# Altium integrated library Atmel MCU Wireless.IntLib: 8 symbols
Pins are listed as number, name and electrical type; pins without a type are passive.

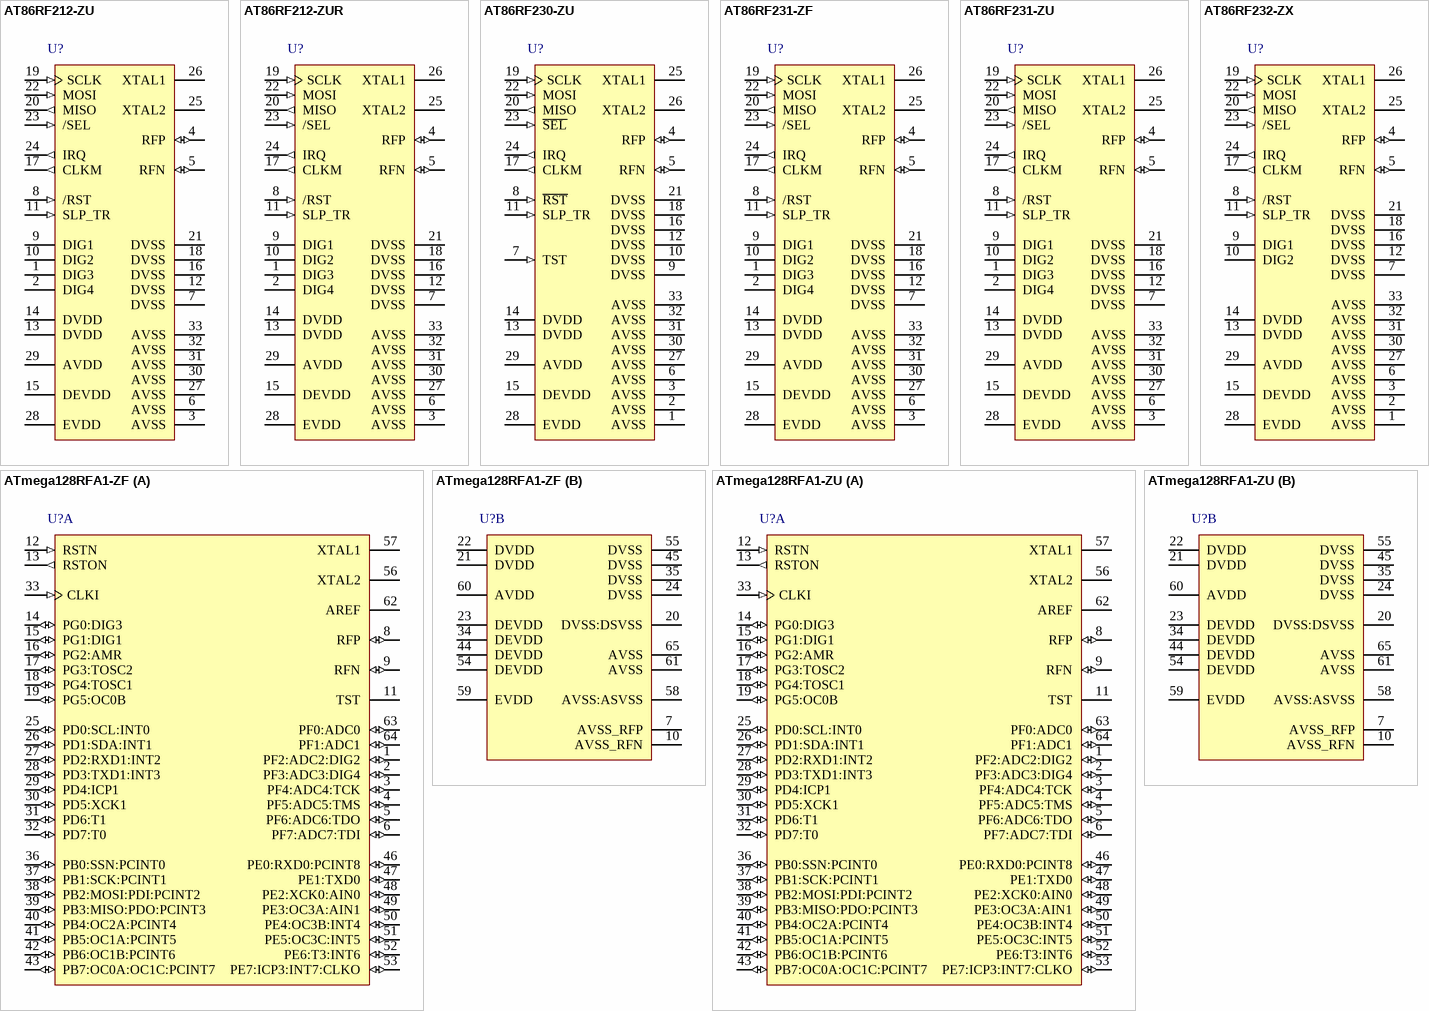
[diagram p0: symbols AT86RF212-ZU to ATmega128RFA1-ZU]

## AT86RF212-ZU
designator U?
AVR Low Power 700/800/900 MHz Transceiver for IEEE 802.15.4-2006, IEEE 802.15.4c-2009, Zigbee 6LoWPAN, and ISM Applications, 64-Pin VQFN (Sawn) (PI64), Industrial (A) (-40°C to 85°C); Max. Operating Frequency: 0 MHz; Max I/O Pins: 0; Crypto Engine: AES; Operating Voltage (Vcc): 1.8 to 3.6; Max Data Rate (Mb/s): 1; Antenna Diversity: No; External PA Control: Yes; Power Output (dBm): 10; Receiver Sensitivity (dBm): -110; Receive Current Consumption (mA): 9; Transmit Current Consumption (mA): 18 at 5dBm; Link Budget (dBm): 120; DatasheetVersion: rev C, Feb-2010; PackageVersion: revA, Nov-2007; PackageReference: 32QN2; PackageDescription: 32-Pin Quad Flat No-Lead (QFN) Sawn,  5 x 5 x 1.0 mm Body, Pitch 0.50 mm, 3.10mm Exposed Pad; SPI: 0; TWI (I2C): 0; UART: 0; ADC channels: 0; ADC Resolution (bits): 0; ADC Speed (ksps): 0; Analog Comparators: 0; SRAM (Kbytes): 0; EEPROM (Bytes): 0; Timers: 0; Frequency Band: 700/800/900MHz; Code_JEDEC: MO-220VHHD-6; ComponentLink1Description: Manufacturer URL; ComponentLink1URL: http://www.atmel.com/; ComponentLink2Description: Datasheet; ComponentLink2URL: http://www.atmel.com/Images/doc8168.pdf
footprint 32QN2_N (QFN, 32-Leads, Body 5x5mm, Pitch 0.5mm, Thermal Pad 3.4x3.4mm, IPC Medium Density)
footprint 32QN2_L (QFN, 32-Leads, Body 5x5mm, Pitch 0.5mm, Thermal Pad 3.4x3.4mm, IPC High Density)
footprint 32QN2_M (QFN, 32-Leads, Body 5x5mm, Pitch 0.5mm, Thermal Pad 3.4x3.4mm, IPC Low Density)
pins: 1 DIG3 "RX/TX Indication , see section9.4; if disabled, internally pulled to AVSS", 2 DIG4 "RX/TX Indication (inverted DIG3) , see section9.4; if disabled, internally pulled to AVSS", 3 AVSS (power) "Ground for RF signals", 4 RFP (io) "Differential RF signal", 5 RFN (io) "Differential RF signal", 6 AVSS (power) "Ground for RF signals", 7 DVSS (power) "Digital ground", 8 /RST (in) "Chip reset; active low", 9 DIG1 "General purpose signal, see section 9.3; if disabled, internally pulled to DVSS", 10 DIG2 "1.General purpose signal (inverted DIG1), see section 9.3; 2.Signal IRQ_2 (RX_START) for RX Frame Time Stamping, see 9.5. If disabled, internally pulled to DVSS", 11 SLP_TR (in) "Controls sleep, transmit start, receive states; active high, see Section 6.5", 12 DVSS (power) "Digital ground", 13 DVDD (power) "Regulated 1.8V supply voltage; digital domain;see section 7.5", 14 DVDD (power) "Regulated 1.8V supply voltage; digital domain;see section 7.5", 15 DEVDD (power) "External supply voltage; digital domain", 16 DVSS (power) "Digital ground", 17 CLKM (out) "Master clock signal output,low if disabled;see section 7.7", 18 DVSS (power) "Digital ground", 19 SCLK (in) "SPI clock", 20 MISO (out) "SPI data output (master input slave output)", 21 DVSS (power) "Digital ground", 22 MOSI (in) "SPI data input (master output slave input)", 23 /SEL (in) "SPI select; active low", 24 IRQ (out) "1.Interrupt request signal; active high or active low;see sectiong 4.7   2.Buffer-level mode indicator;active high", 25 XTAL2 "Crystal pin,see sections 2.2.1.3 and 7.7", 26 XTAL1 "Crystal pin or external clock supply, see  section 2.2.1.3 and 7.7", 27 AVSS (power) "Analog ground", 28 EVDD (power) "External supply voltage; analog domain", 29 AVDD (power) "Regulated 1.8V supply voltage; analog domain;see section 7.5", 30 AVSS (power) "Analog ground", 31 AVSS (power) "Analog ground", 32 AVSS (power) "Analog ground", 33 AVSS (power) "Analog ground;exposed paddle of QFN package"

## AT86RF212-ZUR
designator U?
AVR Low Power 700/800/900 MHz Transceiver for IEEE 802.15.4-2006, IEEE 802.15.4c-2009, Zigbee 6LoWPAN, and ISM Applications, 32-Pin VQFN (32QN1), Industrial (A) (-40°C to 85°C); Max. Operating Frequency: 0 MHz; Max I/O Pins: 0; Crypto Engine: AES; Operating Voltage (Vcc): 1.8 to 3.6; Max Data Rate (Mb/s): 1; Antenna Diversity: No; External PA Control: Yes; Power Output (dBm): 10; Receiver Sensitivity (dBm): -110; Receive Current Consumption (mA): 9; Transmit Current Consumption (mA): 18 at 5dBm; Link Budget (dBm): 120; DatasheetVersion: rev C, Feb-2010; PackageVersion: revA, Nov-2007; PackageReference: 32QN2; PackageDescription: 32-Pin Quad Flat No-Lead (QFN) Sawn,  5 x 5 x 1.0 mm Body, Pitch 0.50 mm, 3.10mm Exposed Pad; SPI: 0; TWI (I2C): 0; UART: 0; ADC channels: 0; ADC Resolution (bits): 0; ADC Speed (ksps): 0; Analog Comparators: 0; SRAM (Kbytes): 0; EEPROM (Bytes): 0; Timers: 0; Frequency Band: 700/800/900MHz; Code_JEDEC: MO-220VHHD-6; ComponentLink1Description: Manufacturer URL; ComponentLink1URL: http://www.atmel.com/; ComponentLink2Description: Datasheet; ComponentLink2URL: http://www.atmel.com/Images/doc8168.pdf
footprint 32QN2_N (QFN, 32-Leads, Body 5x5mm, Pitch 0.5mm, Thermal Pad 3.4x3.4mm, IPC Medium Density)
footprint 32QN2_L (QFN, 32-Leads, Body 5x5mm, Pitch 0.5mm, Thermal Pad 3.4x3.4mm, IPC High Density)
footprint 32QN2_M (QFN, 32-Leads, Body 5x5mm, Pitch 0.5mm, Thermal Pad 3.4x3.4mm, IPC Low Density)
pins: 1 DIG3 "RX/TX Indication , see section9.4; if disabled, internally pulled to AVSS", 2 DIG4 "RX/TX Indication (inverted DIG3) , see section9.4; if disabled, internally pulled to AVSS", 3 AVSS (power) "Ground for RF signals", 4 RFP (io) "Differential RF signal", 5 RFN (io) "Differential RF signal", 6 AVSS (power) "Ground for RF signals", 7 DVSS (power) "Digital ground", 8 /RST (in) "Chip reset; active low", 9 DIG1 "General purpose signal, see section 9.3; if disabled, internally pulled to DVSS", 10 DIG2 "1.General purpose signal (inverted DIG1), see section 9.3; 2.Signal IRQ_2 (RX_START) for RX Frame Time Stamping, see 9.5. If disabled, internally pulled to DVSS", 11 SLP_TR (in) "Controls sleep, transmit start, receive states; active high, see Section 6.5", 12 DVSS (power) "Digital ground", 13 DVDD (power) "Regulated 1.8V supply voltage; digital domain;see section 7.5", 14 DVDD (power) "Regulated 1.8V supply voltage; digital domain;see section 7.5", 15 DEVDD (power) "External supply voltage; digital domain", 16 DVSS (power) "Digital ground", 17 CLKM (out) "Master clock signal output,low if disabled;see section 7.7", 18 DVSS (power) "Digital ground", 19 SCLK (in) "SPI clock", 20 MISO (out) "SPI data output (master input slave output)", 21 DVSS (power) "Digital ground", 22 MOSI (in) "SPI data input (master output slave input)", 23 /SEL (in) "SPI select; active low", 24 IRQ (out) "1.Interrupt request signal; active high or active low;see sectiong 4.7   2.Buffer-level mode indicator;active high", 25 XTAL2 "Crystal pin,see sections 2.2.1.3 and 7.7", 26 XTAL1 "Crystal pin or external clock supply, see  section 2.2.1.3 and 7.7", 27 AVSS (power) "Analog ground", 28 EVDD (power) "External supply voltage; analog domain", 29 AVDD (power) "Regulated 1.8V supply voltage; analog domain;see section 7.5", 30 AVSS (power) "Analog ground", 31 AVSS (power) "Analog ground", 32 AVSS (power) "Analog ground", 33 AVSS (power) "Analog ground;exposed paddle of QFN package"

## AT86RF230-ZU
designator U?
AVR Low Power 2.4 GHz Transceiver for ZigBee IEEE 802.15.4, 6LoWPAN, RF4CE and ISM Applications, 32-Pin VQFN (32QN1), Industrial (A) (-40°C to 85°C); Max I/O Pins: 0; Crypto Engine: No; Operating Voltage (Vcc): 1.8 to 3.6; Frequency Band: 2.4 GHz; Max Data Rate (Mb/s): 0.25; Power Output (dBm): 3; Receiver Sensitivity (dBm): -101; Receive Current Consumption (mA): 16; Transmit Current Consumption (mA): 17; Link Budget (dBm): 104; DatasheetVersion: rev E, Feb-2009; PackageVersion: revA, Nov-2007; PackageReference: 32QN2; PackageDescription: 32-Pin Quad Flat No-Lead (QFN) Sawn,  5 x 5 x 1.0 mm Body, Pitch 0.50 mm, 3.10mm Exposed Pad; SPI: 0; TWI (I2C): 0; UART: 0; ADC channels: 0; ADC Resolution (bits): 0; ADC Speed (ksps): 0; Analog Comparators: 0; SRAM (Kbytes): 0; EEPROM (Bytes): 0; Timers: 0; Antenna Diversity: No; External PA Control: No; Code_JEDEC: MO-220VHHD-6; ComponentLink1Description: Manufacturer URL; ComponentLink1URL: http://www.atmel.com/; ComponentLink2Description: Datasheet; ComponentLink2URL: http://www.atmel.com/Images/doc5131.pdf
footprint 32QN2_N (QFN, 32-Leads, Body 5x5mm, Pitch 0.5mm, Thermal Pad 3.4x3.4mm, IPC Medium Density)
footprint 32QN2_L (QFN, 32-Leads, Body 5x5mm, Pitch 0.5mm, Thermal Pad 3.4x3.4mm, IPC High Density)
footprint 32QN2_M (QFN, 32-Leads, Body 5x5mm, Pitch 0.5mm, Thermal Pad 3.4x3.4mm, IPC Low Density)
pins: 1 AVSS (power) "Analog ground", 2 AVSS (power) "Analog ground", 3 AVSS (power) "Ground for RF signals", 4 RFP (io) "Differential RF signal", 5 RFN (io) "Differential RF signal", 6 AVSS (power) "Ground for RF signals", 7 TST (in) "Enables Continuous Transmission Test Mode; active high", 8 ~{RST} (in) "Chip reset; active low", 9 DVSS (power) "Digital ground", 10 DVSS (power) "Digital ground", 11 SLP_TR (in) "Controls sleep, transmit start and receive states; active high", 12 DVSS (power) "Digital ground", 13 DVDD (power) "Regulated 1.8V supply voltage; digital domain", 14 DVDD (power) "Regulated 1.8V supply voltage; digital domain", 15 DEVDD (power) "External supply voltage; digital domain", 16 DVSS (power) "Digital ground", 17 CLKM (out) "Master clock signal output", 18 DVSS (power) "Digital ground", 19 SCLK (in) "SPI clock", 20 MISO (out) "SPI data output (master input slave output)", 21 DVSS (power) "Digital ground", 22 MOSI (in) "SPI data input (master output slave input)", 23 ~{SEL} (in) "SPI select; active low", 24 IRQ (out) "Interrupt request signal; active high", 25 XTAL1 "Crystal pin or external clock supply", 26 XTAL2 "Crystal pin", 27 AVSS (power) "Analog ground", 28 EVDD (power) "External supply voltage; analog domain", 29 AVDD (power) "Analog ground", 30 AVSS (power) "Analog ground", 31 AVSS (power) "Analog ground", 32 AVSS (power) "Analog ground", 33 AVSS (power) "Analog ground; Exposed Paddle of QFN package"

## AT86RF231-ZF
designator U?
AVR Low Power 2.4 GHz Transceiver for ZigBee IEEE 802.15.4, 6LoWPAN, RF4CE, SP100, WirelessHART and ISM Applications, 32-Pin VQFN (32QN1), Industrial (C) (-40°C to 125°C); Max. Operating Frequency: 0 MHz; Max I/O Pins: 0; Crypto Engine: AES; Operating Voltage (Vcc): 1.8 to 3.6; Frequency Band: 2.4 GHz; Max Data Rate (Mb/s): 2; Antenna Diversity: Yes; Power Output (dBm): 3; Receiver Sensitivity (dBm): -101; Receive Current Consumption (mA): 13.2; Transmit Current Consumption (mA): 14.4; Link Budget (dBm): 104; DatasheetVersion: rev C, Sep-2009; PackageVersion: revA, Nov-2007; PackageReference: 32QN2; PackageDescription: 32-Pin Quad Flat No-Lead (QFN) Sawn,  5 x 5 x 1.0 mm Body, Pitch 0.50 mm, 3.10mm Exposed Pad; SPI: 0; TWI (I2C): 0; UART: 0; ADC channels: 0; ADC Resolution (bits): 0; ADC Speed (ksps): 0; Analog Comparators: 0; SRAM (Kbytes): 0; EEPROM (Bytes): 0; Timers: 0; External PA Control: Yes; Code_JEDEC: MO-220VHHD-6; ComponentLink1Description: Manufacturer URL; ComponentLink1URL: http://www.atmel.com/; ComponentLink2Description: Datasheet; ComponentLink2URL: http://www.atmel.com/Images/doc8111.pdf
footprint 32QN2_N (QFN, 32-Leads, Body 5x5mm, Pitch 0.5mm, Thermal Pad 3.4x3.4mm, IPC Medium Density)
footprint 32QN2_L (QFN, 32-Leads, Body 5x5mm, Pitch 0.5mm, Thermal Pad 3.4x3.4mm, IPC High Density)
footprint 32QN2_M (QFN, 32-Leads, Body 5x5mm, Pitch 0.5mm, Thermal Pad 3.4x3.4mm, IPC Low Density)
pins: 1 DIG3 "1. RX/TX Indicator, see Section 11.5 2. If disabled, pull-down enabled (AVSS)", 2 DIG4 "1. RX/TX indicator (DIG3 inverted), see Section 11.5 2. If disabled, pull-down enabled (AVSS)", 3 AVSS (power) "Ground for RF signals", 4 RFP (io) "Differential RF signal", 5 RFN (io) "Differential RF signal", 6 AVSS (power) "Ground for RF signals", 7 DVSS (power) "Digital ground", 8 /RST (in) "Chip reset; active low", 9 DIG1 "1. Antenna Diversity RF switch control, see Section 11.4 2. If disabled, pull-down enabled (DVSS)", 10 DIG2 "1. Antenna Diversity RF switch control (DIG1 inverted), see Section 11.4 2. Signal IRQ_2 (RX_START) for RX Frame Time Stamping, see Section 11.6 3. If functions disabled, pull-down enabled (DVSS)", 11 SLP_TR (in) "Controls sleep, transmit start, receive states; active high, see Section 6.5", 12 DVSS (power) "Digital ground", 13 DVDD (power) "Regulated 1.8V voltage regulator; digital domain, see Section 9.4", 14 DVDD (power) "Regulated 1.8V voltage regulator; digital domain, see Section 9.4", 15 DEVDD (power) "External supply voltage; digital domain", 16 DVSS (power) "Digital ground", 17 CLKM (out) "Master clock signal output; low if disabled, see Section 9.6", 18 DVSS (power) "Digital ground", 19 SCLK (in) "SPI clock", 20 MISO (out) "SPI data output (Master Input Slave Output)", 21 DVSS (power) "Digital ground", 22 MOSI (in) "SPI data input (Master Output Slave Input)", 23 /SEL (in) "SPI select, active low", 24 IRQ (out) "1. Interrupt request signal; active high or active low; configurable 2. Frame Buffer Empty Indicator; active high, see Section 11.7", 25 XTAL2 "Crystal pin, see Section 9.6", 26 XTAL1 "Crystal pin or external clock supply, see Section 9.6", 27 AVSS (power) "Analog ground", 28 EVDD (power) "External supply voltage, analog domain", 29 AVDD (power) "Regulated 1.8V voltage regulator; analog domain, see Section 9.4", 30 AVSS (power) "Analog ground", 31 AVSS (power) "Analog ground", 32 AVSS (power) "Analog ground", 33 AVSS (power) "Analog ground; Exposed paddle of QFN package"

## AT86RF231-ZU
designator U?
AVR Low Power 2.4 GHz Transceiver for ZigBee IEEE 802.15.4, 6LoWPAN, RF4CE, SP100, WirelessHART and ISM Applications, 32-Pin VQFN (32QN1), Industrial (A) (-40°C to 85°C); Max. Operating Frequency: 0 MHz; Max I/O Pins: 0; Crypto Engine: AES; Operating Voltage (Vcc): 1.8 to 3.6; Frequency Band: 2.4 GHz; Max Data Rate (Mb/s): 2; Antenna Diversity: Yes; Power Output (dBm): 3; Receiver Sensitivity (dBm): -101; Receive Current Consumption (mA): 13.2; Transmit Current Consumption (mA): 14.4; Link Budget (dBm): 104; DatasheetVersion: rev C, Sep-2009; PackageVersion: revA, Nov-2007; PackageReference: 32QN2; PackageDescription: 32-Pin Quad Flat No-Lead (QFN) Sawn,  5 x 5 x 1.0 mm Body, Pitch 0.50 mm, 3.10mm Exposed Pad; SPI: 0; TWI (I2C): 0; UART: 0; ADC channels: 0; ADC Resolution (bits): 0; ADC Speed (ksps): 0; Analog Comparators: 0; SRAM (Kbytes): 0; EEPROM (Bytes): 0; Timers: 0; External PA Control: Yes; Code_JEDEC: MO-220VHHD-6; ComponentLink1Description: Manufacturer URL; ComponentLink1URL: http://www.atmel.com/; ComponentLink2Description: Datasheet; ComponentLink2URL: http://www.atmel.com/Images/doc8111.pdf
footprint 32QN2_N (QFN, 32-Leads, Body 5x5mm, Pitch 0.5mm, Thermal Pad 3.4x3.4mm, IPC Medium Density)
footprint 32QN2_L (QFN, 32-Leads, Body 5x5mm, Pitch 0.5mm, Thermal Pad 3.4x3.4mm, IPC High Density)
footprint 32QN2_M (QFN, 32-Leads, Body 5x5mm, Pitch 0.5mm, Thermal Pad 3.4x3.4mm, IPC Low Density)
pins: 1 DIG3 "1. RX/TX Indicator, see Section 11.5 2. If disabled, pull-down enabled (AVSS)", 2 DIG4 "1. RX/TX indicator (DIG3 inverted), see Section 11.5 2. If disabled, pull-down enabled (AVSS)", 3 AVSS (power) "Ground for RF signals", 4 RFP (io) "Differential RF signal", 5 RFN (io) "Differential RF signal", 6 AVSS (power) "Ground for RF signals", 7 DVSS (power) "Digital ground", 8 /RST (in) "Chip reset; active low", 9 DIG1 "1. Antenna Diversity RF switch control, see Section 11.4 2. If disabled, pull-down enabled (DVSS)", 10 DIG2 "1. Antenna Diversity RF switch control (DIG1 inverted), see Section 11.4 2. Signal IRQ_2 (RX_START) for RX Frame Time Stamping, see Section 11.6 3. If functions disabled, pull-down enabled (DVSS)", 11 SLP_TR (in) "Controls sleep, transmit start, receive states; active high, see Section 6.5", 12 DVSS (power) "Digital ground", 13 DVDD (power) "Regulated 1.8V voltage regulator; digital domain, see Section 9.4", 14 DVDD (power) "Regulated 1.8V voltage regulator; digital domain, see Section 9.4", 15 DEVDD (power) "External supply voltage; digital domain", 16 DVSS (power) "Digital ground", 17 CLKM (out) "Master clock signal output; low if disabled, see Section 9.6", 18 DVSS (power) "Digital ground", 19 SCLK (in) "SPI clock", 20 MISO (out) "SPI data output (Master Input Slave Output)", 21 DVSS (power) "Digital ground", 22 MOSI (in) "SPI data input (Master Output Slave Input)", 23 /SEL (in) "SPI select, active low", 24 IRQ (out) "1. Interrupt request signal; active high or active low; configurable 2. Frame Buffer Empty Indicator; active high, see Section 11.7", 25 XTAL2 "Crystal pin, see Section 9.6", 26 XTAL1 "Crystal pin or external clock supply, see Section 9.6", 27 AVSS (power) "Analog ground", 28 EVDD (power) "External supply voltage, analog domain", 29 AVDD (power) "Regulated 1.8V voltage regulator; analog domain, see Section 9.4", 30 AVSS (power) "Analog ground", 31 AVSS (power) "Analog ground", 32 AVSS (power) "Analog ground", 33 AVSS (power) "Analog ground; Exposed paddle of QFN package"

## AT86RF232-ZX
designator U?
Low Power, 2.4 GHz Transceiver for ZigBee, IEEE 802.15.4, 6LoWPAN, RF4CE and ISM Applications, 32-Pin VQFN (32QN1), Commercial (0°C to +70°C); Max. Operating Frequency: 0 MHz; Max I/O Pins: 0; Crypto Engine: AES; Operating Voltage (Vcc): 1.8 to 3.6; Frequency Band: 2.4 GHz; Max Data Rate (Mb/s): 0.25; Antenna Diversity: Yes; Power Output (dBm): 3; Receiver Sensitivity (dBm): -100; Receive Current Consumption (mA): 11.8; Transmit Current Consumption (mA): 13.8; Link Budget (dBm): 103; DatasheetVersion: rev A, Oct-2011; PackageVersion: revA, Nov-2007; PackageReference: 32QN2; PackageDescription: 32-Pin Quad Flat No-Lead (QFN) Sawn,  5 x 5 x 1.0 mm Body, Pitch 0.50 mm, 3.10mm Exposed Pad; SPI: 0; TWI (I2C): 0; UART: 0; ADC channels: 0; ADC Resolution (bits): 0; ADC Speed (ksps): 0; Analog Comparators: 0; SRAM (Kbytes): 0; EEPROM (Bytes): 0; Timers: 0; External PA Control: Yes; Code_JEDEC: MO-220VHHD-6; ComponentLink1Description: Manufacturer URL; ComponentLink1URL: http://www.atmel.com/; ComponentLink2Description: Datasheet; ComponentLink2URL: http://www.atmel.com/Images/doc8321.pdf
footprint 32QN2_N (QFN, 32-Leads, Body 5x5mm, Pitch 0.5mm, Thermal Pad 3.4x3.4mm, IPC Medium Density)
footprint 32QN2_L (QFN, 32-Leads, Body 5x5mm, Pitch 0.5mm, Thermal Pad 3.4x3.4mm, IPC High Density)
footprint 32QN2_M (QFN, 32-Leads, Body 5x5mm, Pitch 0.5mm, Thermal Pad 3.4x3.4mm, IPC Low Density)
pins: 1 AVSS (power) "Analog ground", 2 AVSS (power) "Analog ground", 3 AVSS (power) "Ground for RF signals", 4 RFP (io) "Differential RF signal", 5 RFN (io) "Differential RF signal", 6 AVSS (power) "Ground for RF signals", 7 DVSS (power) "Digital ground", 8 /RST (in) "Chip reset; active low", 9 DIG1 "1. Antenna Diversity RF switch control, see Section 11.3     2. If disabled, pull-down enabled (DVSS)", 10 DIG2 "1. Antenna Diversity RF switch control (DIG1 inverted), see Section 11.3   2. RX Frame Time Stamping, see Section 11.4    3. TX Frame Time Stamping, see Section 11.4    4. If functions disabled, pull-down enabled (DVSS)", 11 SLP_TR (in) "Controls sleep, transmit start, receive states; active high, see Section 6.5", 12 DVSS (power) "Digital ground", 13 DVDD (power) "Regulated 1.8V voltage regulator; digital domain, see Section", 14 DVDD (power) "Regulated 1.8V voltage regulator; digital domain, see Section", 15 DEVDD (power) "External supply voltage; digital domain", 16 DVSS (power) "Digital ground", 17 CLKM (out) "Master clock signal output; low if disabled, see Section 9.6", 18 DVSS (power) "Digital ground", 19 SCLK (in) "SPI clock", 20 MISO (out) "SPI data output (master input slave output)", 21 DVSS (power) "Digital ground", 22 MOSI (in) "SPI data input (master output slave input)", 23 /SEL (in) "SPI select, active low", 24 IRQ (out) "1. Interrupt request signal; active high or active low; configurable   2. Frame Buffer Empty Indicator; active high, see Section 11.5", 25 XTAL2 "Crystal pin, see Section 9.6", 26 XTAL1 "Crystal pin or external clock supply, see Section 9.6", 27 AVSS (power) "Analog ground", 28 EVDD (power) "External supply voltage, analog domain", 29 AVDD (power) "Regulated 1.8V voltage regulator; analog domain, see Section 9.4", 30 AVSS (power) "Analog ground", 31 AVSS (power) "Analog ground", 32 AVSS (power) "Analog ground", 33 AVSS (power) "Analog ground; Exposed paddle of QFN package"

## ATmega128RFA1-ZF
designator U?
8-bit AVR Microcontroller with Low Power 2.4GHz Transceiver for ZigBee and IEEE 802.15.4, 64-Pin VQFN (Sawn) (PI64), Industrial (-40°C to 125°C); Flash (Kbytes): 128 Kbytes; Max. Operating Frequency: 16 MHz; Max I/O Pins: 38; SPI: 1; ADC channels: 8; ADC Resolution (bits): 10; Crypto Engine: AES; SRAM (Kbytes): 16; EEPROM (Bytes): 4096; Operating Voltage (Vcc): 1.8 to 3.6; Timers: 6; Max Data Rate (Mb/s): 2; Antenna Diversity: Yes; Power Output (dBm): 3.5; Receiver Sensitivity (dBm): -100; Receive Current Consumption (mA): 16.6; Transmit Current Consumption (mA): 18.6; Link Budget (dBm): 103.5; DatasheetVersion: rev C, Oct-2011; PackageVersion: revA, Feb-2008; PackageReference: 64PI; PackageDescription: 64-Pin Quad Flat No-Lead (QFN), 9 x 9 mm Body, 0.5 mm Pitch, 5.65 x 4.75 mm Exposed Pad; TWI (I2C): 1; UART: 1; Analog Comparators: 1; Frequency Band: 2.4 GHz; External PA Control: Yes; ComponentLink1Description: Manufacturer URL; ComponentLink1URL: http://www.atmel.com/; ComponentLink2Description: Datasheet; ComponentLink2URL: http://www.atmel.com/Images/doc8266.pdf
footprint 64PI_N (QFN, 64-Leads, Body 9x9mm, Pitch 0.5mm, Thermal Pad 5.8x4.9mm, IPC Medium Density)
footprint 64PI_L (QFN, 64-Leads, Body 9x9mm, Pitch 0.5mm, Thermal Pad 5.8x4.9mm, IPC High Density)
footprint 64PI_M (QFN, 64-Leads, Body 9x9mm, Pitch 0.5mm, Thermal Pad 5.8x4.9mm, IPC Low Density)
part A pins: 1 PF2:ADC2:DIG2 (io) "Port F is an 8-bit bi-directional I/O port with internal pull-up resistors (selected for each bit). The Port F output buffers have symmetrical drive characteristics with both high sink and source capability. As inputs, Port F pins that are externally pul", 2 PF3:ADC3:DIG4 (io) "Port F is an 8-bit bi-directional I/O port with internal pull-up resistors (selected for each bit). The Port F output buffers have symmetrical drive characteristics with both high sink and source capability. As inputs, Port F pins that are externally pul", 3 PF4:ADC4:TCK (io) "Port F is an 8-bit bi-directional I/O port with internal pull-up resistors (selected for each bit). The Port F output buffers have symmetrical drive characteristics with both high sink and source capability. As inputs, Port F pins that are externally pul", 4 PF5:ADC5:TMS (io) "Port F is an 8-bit bi-directional I/O port with internal pull-up resistors (selected for each bit). The Port F output buffers have symmetrical drive characteristics with both high sink and source capability. As inputs, Port F pins that are externally pul", 5 PF6:ADC6:TDO (io) "Port F is an 8-bit bi-directional I/O port with internal pull-up resistors (selected for each bit). The Port F output buffers have symmetrical drive characteristics with both high sink and source capability. As inputs, Port F pins that are externally pul", 6 PF7:ADC7:TDI (io) "Port F is an 8-bit bi-directional I/O port with internal pull-up resistors (selected for each bit). The Port F output buffers have symmetrical drive characteristics with both high sink and source capability. As inputs, Port F pins that are externally pul", 8 RFP (io) "RFP is the positive terminal for the bi-directional, differential RF I/O port", 9 RFN (io) "RFN is the negative terminal for the bi-directional, differential RF I/O port.", 11 TST "Programming and test mode enable pin. If pin TST is not used pull it to low.", 12 RSTN (in) "Reset input. A low level on this pin for longer than the minimum pulse length will generate a reset, even if the clock is not running. Shorter pulses are not guaranteed to generate a reset.", 13 RSTON (out) "Reset output. A low level on this pin indicates a reset initiated by the internal reset sources or the pin RSTN.", 14 PG0:DIG3 (io) "Port G is a 6-bit bi-directional I/O port with internal pull-up resistors (selected for each bit). The Port G output buffers have symmetrical drive characteristics with both high sink and source capability. However the driver strength of PG3 and PG4 is r", 15 PG1:DIG1 (io) "Port G is a 6-bit bi-directional I/O port with internal pull-up resistors (selected for each bit). The Port G output buffers have symmetrical drive characteristics with both high sink and source capability. However the driver strength of PG3 and PG4 is r", 16 PG2:AMR (io) "Port G is a 6-bit bi-directional I/O port with internal pull-up resistors (selected for each bit). The Port G output buffers have symmetrical drive characteristics with both high sink and source capability. However the driver strength of PG3 and PG4 is r", 17 PG3:TOSC2 (io) "Port G is a 6-bit bi-directional I/O port with internal pull-up resistors (selected for each bit). The Port G output buffers have symmetrical drive characteristics with both high sink and source capability. However the driver strength of PG3 and PG4 is r", 18 PG4:TOSC1 (io) "Port G is a 6-bit bi-directional I/O port with internal pull-up resistors (selected for each bit). The Port G output buffers have symmetrical drive characteristics with both high sink and source capability. However the driver strength of PG3 and PG4 is r", 19 PG5:OC0B (io) "Port G is a 6-bit bi-directional I/O port with internal pull-up resistors (selected for each bit). The Port G output buffers have symmetrical drive characteristics with both high sink and source capability. However the driver strength of PG3 and PG4 is r", 25 PD0:SCL:INT0 (io) "Port D is an 8-bit bi-directional I/O port with internal pull-up resistors (selected for each bit). The Port D output buffers have symmetrical drive characteristics with both high sink and source capability. As inputs, Port D pins that are externally pul", 26 PD1:SDA:INT1 (io) "Port D is an 8-bit bi-directional I/O port with internal pull-up resistors (selected for each bit). The Port D output buffers have symmetrical drive characteristics with both high sink and source capability. As inputs, Port D pins that are externally pul", 27 PD2:RXD1:INT2 (io) "Port D is an 8-bit bi-directional I/O port with internal pull-up resistors (selected for each bit). The Port D output buffers have symmetrical drive characteristics with both high sink and source capability. As inputs, Port D pins that are externally pul", 28 PD3:TXD1:INT3 (io) "Port D is an 8-bit bi-directional I/O port with internal pull-up resistors (selected for each bit). The Port D output buffers have symmetrical drive characteristics with both high sink and source capability. As inputs, Port D pins that are externally pul", 29 PD4:ICP1 (io) "Port D is an 8-bit bi-directional I/O port with internal pull-up resistors (selected for each bit). The Port D output buffers have symmetrical drive characteristics with both high sink and source capability. As inputs, Port D pins that are externally pul", 30 PD5:XCK1 (io) "Port D is an 8-bit bi-directional I/O port with internal pull-up resistors (selected for each bit). The Port D output buffers have symmetrical drive characteristics with both high sink and source capability. As inputs, Port D pins that are externally pul", 31 PD6:T1 (io) "Port D is an 8-bit bi-directional I/O port with internal pull-up resistors (selected for each bit). The Port D output buffers have symmetrical drive characteristics with both high sink and source capability. As inputs, Port D pins that are externally pul", 32 PD7:T0 (io) "Port D is an 8-bit bi-directional I/O port with internal pull-up resistors (selected for each bit). The Port D output buffers have symmetrical drive characteristics with both high sink and source capability. As inputs, Port D pins that are externally pul", 33 CLKI (in) "Input to the clock system. If selected, it provides the operating clock of the microcontroller.", 36 PB0:SSN:PCINT0 (io) "Port B is an 8-bit bi-directional I/O port with internal pull-up resistors (selected for each bit). The Port B output buffers have symmetrical drive characteristics with both high sink and source capability. As inputs, Port B pins that are externally pul", 37 PB1:SCK:PCINT1 (io) "Port B is an 8-bit bi-directional I/O port with internal pull-up resistors (selected for each bit). The Port B output buffers have symmetrical drive characteristics with both high sink and source capability. As inputs, Port B pins that are externally pul", 38 PB2:MOSI:PDI:PCINT2 (io) "Port B is an 8-bit bi-directional I/O port with internal pull-up resistors (selected for each bit). The Port B output buffers have symmetrical drive characteristics with both high sink and source capability. As inputs, Port B pins that are externally pul", 39 PB3:MISO:PDO:PCINT3 (io) "Port B is an 8-bit bi-directional I/O port with internal pull-up resistors (selected for each bit). The Port B output buffers have symmetrical drive characteristics with both high sink and source capability. As inputs, Port B pins that are externally pul", 40 PB4:OC2A:PCINT4 (io) "Port B is an 8-bit bi-directional I/O port with internal pull-up resistors (selected for each bit). The Port B output buffers have symmetrical drive characteristics with both high sink and source capability. As inputs, Port B pins that are externally pul", 41 PB5:OC1A:PCINT5 (io) "Port B is an 8-bit bi-directional I/O port with internal pull-up resistors (selected for each bit). The Port B output buffers have symmetrical drive characteristics with both high sink and source capability. As inputs, Port B pins that are externally pul", 42 PB6:OC1B:PCINT6 (io) "Port B is an 8-bit bi-directional I/O port with internal pull-up resistors (selected for each bit). The Port B output buffers have symmetrical drive characteristics with both high sink and source capability. As inputs, Port B pins that are externally pul", 43 PB7:OC0A:OC1C:PCINT7 (io) "Port B is an 8-bit bi-directional I/O port with internal pull-up resistors (selected for each bit). The Port B output buffers have symmetrical drive characteristics with both high sink and source capability. As inputs, Port B pins that are externally pul", 46 PE0:RXD0:PCINT8 (io) "Port E is an 8-bit bi-directional I/O port with internal pull-up resistors (selected for each bit). The Port E output buffers have symmetrical drive characteristics with both high sink and source capability. As inputs, Port E pins that are externally pul", 47 PE1:TXD0 (io) "Port E is an 8-bit bi-directional I/O port with internal pull-up resistors (selected for each bit). The Port E output buffers have symmetrical drive characteristics with both high sink and source capability. As inputs, Port E pins that are externally pul", 48 PE2:XCK0:AIN0 (io) "Port E is an 8-bit bi-directional I/O port with internal pull-up resistors (selected for each bit). The Port E output buffers have symmetrical drive characteristics with both high sink and source capability. As inputs, Port E pins that are externally pul", 49 PE3:OC3A:AIN1 (io) "Port E is an 8-bit bi-directional I/O port with internal pull-up resistors (selected for each bit). The Port E output buffers have symmetrical drive characteristics with both high sink and source capability. As inputs, Port E pins that are externally pul", 50 PE4:OC3B:INT4 (io) "Port E is an 8-bit bi-directional I/O port with internal pull-up resistors (selected for each bit). The Port E output buffers have symmetrical drive characteristics with both high sink and source capability. As inputs, Port E pins that are externally pul", 51 PE5:OC3C:INT5 (io) "Port E is an 8-bit bi-directional I/O port with internal pull-up resistors (selected for each bit). The Port E output buffers have symmetrical drive characteristics with both high sink and source capability. As inputs, Port E pins that are externally pul", 52 PE6:T3:INT6 (io) "Port E is an 8-bit bi-directional I/O port with internal pull-up resistors (selected for each bit). The Port E output buffers have symmetrical drive characteristics with both high sink and source capability. As inputs, Port E pins that are externally pul", 53 PE7:ICP3:INT7:CLKO (io) "Port E is an 8-bit bi-directional I/O port with internal pull-up resistors (selected for each bit). The Port E output buffers have symmetrical drive characteristics with both high sink and source capability. As inputs, Port E pins that are externally pul", 56 XTAL2 "Output of the inverting 16MHz crystal oscillator amplifier.", 57 XTAL1 "Input to the inverting 16MHz crystal oscillator amplifier. In general a crystal between XTAL1 and XTAL2 provides the 16MHz reference clock of the radio transceiver.", 62 AREF "Reference voltage output of the A/D Converter. In general this pin is left open.", 63 PF0:ADC0 (io) "Port F is an 8-bit bi-directional I/O port with internal pull-up resistors (selected for each bit). The Port F output buffers have symmetrical drive characteristics with both high sink and source capability. As inputs, Port F pins that are externally pul", 64 PF1:ADC1 (io) "Port F is an 8-bit bi-directional I/O port with internal pull-up resistors (selected for each bit). The Port F output buffers have symmetrical drive characteristics with both high sink and source capability. As inputs, Port F pins that are externally pul"
part B pins: 7 AVSS_RFP (power) "AVSS_RFP is a dedicated ground pin for the bi-directional, differential RF I/O port.", 10 AVSS_RFN (power) "AVSS_RFN is a dedicated ground pin for the bi-directional, differential RF I/O port.", 20 DVSS:DSVSS (power) "Digital ground", 21 DVDD (power) "Regulated digital supply voltage (internally generated).", 22 DVDD (power) "Regulated digital supply voltage (internally generated).", 23 DEVDD (power) "External digital supply voltage.", 24 DVSS (power) "Digital ground.", 34 DEVDD (power) "External digital supply voltage.", 35 DVSS (power) "Digital ground.", 44 DEVDD (power) "External digital supply voltage.", 45 DVSS (power) "Digital ground.", 54 DEVDD (power) "External digital supply voltage.", 55 DVSS (power) "Digital ground.", 58 AVSS:ASVSS (power) "Analog ground.", 59 EVDD (power) "External analog supply voltage.", 60 AVDD (power) "Regulated analog supply voltage (internally generated).", 61 AVSS (power) "Analog ground.", 65 AVSS (power) "Exposed paddle"

## ATmega128RFA1-ZU
designator U?
8-bit AVR Microcontroller with Low Power 2.4GHz Transceiver for ZigBee and IEEE 802.15.4, 64-Pin VQFN (Sawn) (PI64), Industrial (-40°C to 85°C); Flash (Kbytes): 128 Kbytes; Max. Operating Frequency: 16 MHz; Max I/O Pins: 38; SPI: 1; ADC channels: 8; ADC Resolution (bits): 10; Crypto Engine: AES; SRAM (Kbytes): 16; EEPROM (Bytes): 4096; Operating Voltage (Vcc): 1.8 to 3.6; Timers: 6; Max Data Rate (Mb/s): 2; Antenna Diversity: Yes; Power Output (dBm): 3.5; Receiver Sensitivity (dBm): -100; Receive Current Consumption (mA): 16.6; Transmit Current Consumption (mA): 18.6; Link Budget (dBm): 103.5; DatasheetVersion: rev C, Oct-2011; PackageVersion: revA, Feb-2008; PackageReference: 64PI; PackageDescription: 64-Pin Quad Flat No-Lead (QFN), 9 x 9 mm Body, 0.5 mm Pitch, 5.65 x 4.75 mm Exposed Pad; TWI (I2C): 1; UART: 1; Analog Comparators: 1; Frequency Band: 2.4 GHz; External PA Control: Yes; ComponentLink1Description: Manufacturer URL; ComponentLink1URL: http://www.atmel.com/; ComponentLink2Description: Datasheet; ComponentLink2URL: http://www.atmel.com/Images/doc8266.pdf
footprint 64PI_N (QFN, 64-Leads, Body 9x9mm, Pitch 0.5mm, Thermal Pad 5.8x4.9mm, IPC Medium Density)
footprint 64PI_L (QFN, 64-Leads, Body 9x9mm, Pitch 0.5mm, Thermal Pad 5.8x4.9mm, IPC High Density)
footprint 64PI_M (QFN, 64-Leads, Body 9x9mm, Pitch 0.5mm, Thermal Pad 5.8x4.9mm, IPC Low Density)
part A pins: 1 PF2:ADC2:DIG2 (io) "Port F is an 8-bit bi-directional I/O port with internal pull-up resistors (selected for each bit). The Port F output buffers have symmetrical drive characteristics with both high sink and source capability. As inputs, Port F pins that are externally pul", 2 PF3:ADC3:DIG4 (io) "Port F is an 8-bit bi-directional I/O port with internal pull-up resistors (selected for each bit). The Port F output buffers have symmetrical drive characteristics with both high sink and source capability. As inputs, Port F pins that are externally pul", 3 PF4:ADC4:TCK (io) "Port F is an 8-bit bi-directional I/O port with internal pull-up resistors (selected for each bit). The Port F output buffers have symmetrical drive characteristics with both high sink and source capability. As inputs, Port F pins that are externally pul", 4 PF5:ADC5:TMS (io) "Port F is an 8-bit bi-directional I/O port with internal pull-up resistors (selected for each bit). The Port F output buffers have symmetrical drive characteristics with both high sink and source capability. As inputs, Port F pins that are externally pul", 5 PF6:ADC6:TDO (io) "Port F is an 8-bit bi-directional I/O port with internal pull-up resistors (selected for each bit). The Port F output buffers have symmetrical drive characteristics with both high sink and source capability. As inputs, Port F pins that are externally pul", 6 PF7:ADC7:TDI (io) "Port F is an 8-bit bi-directional I/O port with internal pull-up resistors (selected for each bit). The Port F output buffers have symmetrical drive characteristics with both high sink and source capability. As inputs, Port F pins that are externally pul", 8 RFP (io) "RFP is the positive terminal for the bi-directional, differential RF I/O port", 9 RFN (io) "RFN is the negative terminal for the bi-directional, differential RF I/O port.", 11 TST "Programming and test mode enable pin. If pin TST is not used pull it to low.", 12 RSTN (in) "Reset input. A low level on this pin for longer than the minimum pulse length will generate a reset, even if the clock is not running. Shorter pulses are not guaranteed to generate a reset.", 13 RSTON (out) "Reset output. A low level on this pin indicates a reset initiated by the internal reset sources or the pin RSTN.", 14 PG0:DIG3 (io) "Port G is a 6-bit bi-directional I/O port with internal pull-up resistors (selected for each bit). The Port G output buffers have symmetrical drive characteristics with both high sink and source capability. However the driver strength of PG3 and PG4 is r", 15 PG1:DIG1 (io) "Port G is a 6-bit bi-directional I/O port with internal pull-up resistors (selected for each bit). The Port G output buffers have symmetrical drive characteristics with both high sink and source capability. However the driver strength of PG3 and PG4 is r", 16 PG2:AMR (io) "Port G is a 6-bit bi-directional I/O port with internal pull-up resistors (selected for each bit). The Port G output buffers have symmetrical drive characteristics with both high sink and source capability. However the driver strength of PG3 and PG4 is r", 17 PG3:TOSC2 (io) "Port G is a 6-bit bi-directional I/O port with internal pull-up resistors (selected for each bit). The Port G output buffers have symmetrical drive characteristics with both high sink and source capability. However the driver strength of PG3 and PG4 is r", 18 PG4:TOSC1 (io) "Port G is a 6-bit bi-directional I/O port with internal pull-up resistors (selected for each bit). The Port G output buffers have symmetrical drive characteristics with both high sink and source capability. However the driver strength of PG3 and PG4 is r", 19 PG5:OC0B (io) "Port G is a 6-bit bi-directional I/O port with internal pull-up resistors (selected for each bit). The Port G output buffers have symmetrical drive characteristics with both high sink and source capability. However the driver strength of PG3 and PG4 is r", 25 PD0:SCL:INT0 (io) "Port D is an 8-bit bi-directional I/O port with internal pull-up resistors (selected for each bit). The Port D output buffers have symmetrical drive characteristics with both high sink and source capability. As inputs, Port D pins that are externally pul", 26 PD1:SDA:INT1 (io) "Port D is an 8-bit bi-directional I/O port with internal pull-up resistors (selected for each bit). The Port D output buffers have symmetrical drive characteristics with both high sink and source capability. As inputs, Port D pins that are externally pul", 27 PD2:RXD1:INT2 (io) "Port D is an 8-bit bi-directional I/O port with internal pull-up resistors (selected for each bit). The Port D output buffers have symmetrical drive characteristics with both high sink and source capability. As inputs, Port D pins that are externally pul", 28 PD3:TXD1:INT3 (io) "Port D is an 8-bit bi-directional I/O port with internal pull-up resistors (selected for each bit). The Port D output buffers have symmetrical drive characteristics with both high sink and source capability. As inputs, Port D pins that are externally pul", 29 PD4:ICP1 (io) "Port D is an 8-bit bi-directional I/O port with internal pull-up resistors (selected for each bit). The Port D output buffers have symmetrical drive characteristics with both high sink and source capability. As inputs, Port D pins that are externally pul", 30 PD5:XCK1 (io) "Port D is an 8-bit bi-directional I/O port with internal pull-up resistors (selected for each bit). The Port D output buffers have symmetrical drive characteristics with both high sink and source capability. As inputs, Port D pins that are externally pul", 31 PD6:T1 (io) "Port D is an 8-bit bi-directional I/O port with internal pull-up resistors (selected for each bit). The Port D output buffers have symmetrical drive characteristics with both high sink and source capability. As inputs, Port D pins that are externally pul", 32 PD7:T0 (io) "Port D is an 8-bit bi-directional I/O port with internal pull-up resistors (selected for each bit). The Port D output buffers have symmetrical drive characteristics with both high sink and source capability. As inputs, Port D pins that are externally pul", 33 CLKI (in) "Input to the clock system. If selected, it provides the operating clock of the microcontroller.", 36 PB0:SSN:PCINT0 (io) "Port B is an 8-bit bi-directional I/O port with internal pull-up resistors (selected for each bit). The Port B output buffers have symmetrical drive characteristics with both high sink and source capability. As inputs, Port B pins that are externally pul", 37 PB1:SCK:PCINT1 (io) "Port B is an 8-bit bi-directional I/O port with internal pull-up resistors (selected for each bit). The Port B output buffers have symmetrical drive characteristics with both high sink and source capability. As inputs, Port B pins that are externally pul", 38 PB2:MOSI:PDI:PCINT2 (io) "Port B is an 8-bit bi-directional I/O port with internal pull-up resistors (selected for each bit). The Port B output buffers have symmetrical drive characteristics with both high sink and source capability. As inputs, Port B pins that are externally pul", 39 PB3:MISO:PDO:PCINT3 (io) "Port B is an 8-bit bi-directional I/O port with internal pull-up resistors (selected for each bit). The Port B output buffers have symmetrical drive characteristics with both high sink and source capability. As inputs, Port B pins that are externally pul", 40 PB4:OC2A:PCINT4 (io) "Port B is an 8-bit bi-directional I/O port with internal pull-up resistors (selected for each bit). The Port B output buffers have symmetrical drive characteristics with both high sink and source capability. As inputs, Port B pins that are externally pul", 41 PB5:OC1A:PCINT5 (io) "Port B is an 8-bit bi-directional I/O port with internal pull-up resistors (selected for each bit). The Port B output buffers have symmetrical drive characteristics with both high sink and source capability. As inputs, Port B pins that are externally pul", 42 PB6:OC1B:PCINT6 (io) "Port B is an 8-bit bi-directional I/O port with internal pull-up resistors (selected for each bit). The Port B output buffers have symmetrical drive characteristics with both high sink and source capability. As inputs, Port B pins that are externally pul", 43 PB7:OC0A:OC1C:PCINT7 (io) "Port B is an 8-bit bi-directional I/O port with internal pull-up resistors (selected for each bit). The Port B output buffers have symmetrical drive characteristics with both high sink and source capability. As inputs, Port B pins that are externally pul", 46 PE0:RXD0:PCINT8 (io) "Port E is an 8-bit bi-directional I/O port with internal pull-up resistors (selected for each bit). The Port E output buffers have symmetrical drive characteristics with both high sink and source capability. As inputs, Port E pins that are externally pul", 47 PE1:TXD0 (io) "Port E is an 8-bit bi-directional I/O port with internal pull-up resistors (selected for each bit). The Port E output buffers have symmetrical drive characteristics with both high sink and source capability. As inputs, Port E pins that are externally pul", 48 PE2:XCK0:AIN0 (io) "Port E is an 8-bit bi-directional I/O port with internal pull-up resistors (selected for each bit). The Port E output buffers have symmetrical drive characteristics with both high sink and source capability. As inputs, Port E pins that are externally pul", 49 PE3:OC3A:AIN1 (io) "Port E is an 8-bit bi-directional I/O port with internal pull-up resistors (selected for each bit). The Port E output buffers have symmetrical drive characteristics with both high sink and source capability. As inputs, Port E pins that are externally pul", 50 PE4:OC3B:INT4 (io) "Port E is an 8-bit bi-directional I/O port with internal pull-up resistors (selected for each bit). The Port E output buffers have symmetrical drive characteristics with both high sink and source capability. As inputs, Port E pins that are externally pul", 51 PE5:OC3C:INT5 (io) "Port E is an 8-bit bi-directional I/O port with internal pull-up resistors (selected for each bit). The Port E output buffers have symmetrical drive characteristics with both high sink and source capability. As inputs, Port E pins that are externally pul", 52 PE6:T3:INT6 (io) "Port E is an 8-bit bi-directional I/O port with internal pull-up resistors (selected for each bit). The Port E output buffers have symmetrical drive characteristics with both high sink and source capability. As inputs, Port E pins that are externally pul", 53 PE7:ICP3:INT7:CLKO (io) "Port E is an 8-bit bi-directional I/O port with internal pull-up resistors (selected for each bit). The Port E output buffers have symmetrical drive characteristics with both high sink and source capability. As inputs, Port E pins that are externally pul", 56 XTAL2 "Output of the inverting 16MHz crystal oscillator amplifier.", 57 XTAL1 "Input to the inverting 16MHz crystal oscillator amplifier. In general a crystal between XTAL1 and XTAL2 provides the 16MHz reference clock of the radio transceiver.", 62 AREF "Reference voltage output of the A/D Converter. In general this pin is left open.", 63 PF0:ADC0 (io) "Port F is an 8-bit bi-directional I/O port with internal pull-up resistors (selected for each bit). The Port F output buffers have symmetrical drive characteristics with both high sink and source capability. As inputs, Port F pins that are externally pul", 64 PF1:ADC1 (io) "Port F is an 8-bit bi-directional I/O port with internal pull-up resistors (selected for each bit). The Port F output buffers have symmetrical drive characteristics with both high sink and source capability. As inputs, Port F pins that are externally pul"
part B pins: 7 AVSS_RFP (power) "AVSS_RFP is a dedicated ground pin for the bi-directional, differential RF I/O port.", 10 AVSS_RFN (power) "AVSS_RFN is a dedicated ground pin for the bi-directional, differential RF I/O port.", 20 DVSS:DSVSS (power) "Digital ground", 21 DVDD (power) "Regulated digital supply voltage (internally generated).", 22 DVDD (power) "Regulated digital supply voltage (internally generated).", 23 DEVDD (power) "External digital supply voltage.", 24 DVSS (power) "Digital ground.", 34 DEVDD (power) "External digital supply voltage.", 35 DVSS (power) "Digital ground.", 44 DEVDD (power) "External digital supply voltage.", 45 DVSS (power) "Digital ground.", 54 DEVDD (power) "External digital supply voltage.", 55 DVSS (power) "Digital ground.", 58 AVSS:ASVSS (power) "Analog ground.", 59 EVDD (power) "External analog supply voltage.", 60 AVDD (power) "Regulated analog supply voltage (internally generated).", 61 AVSS (power) "Analog ground.", 65 AVSS (power) "Exposed paddle"